# EAGLE library part 30PAD (library 29PAD-ta)
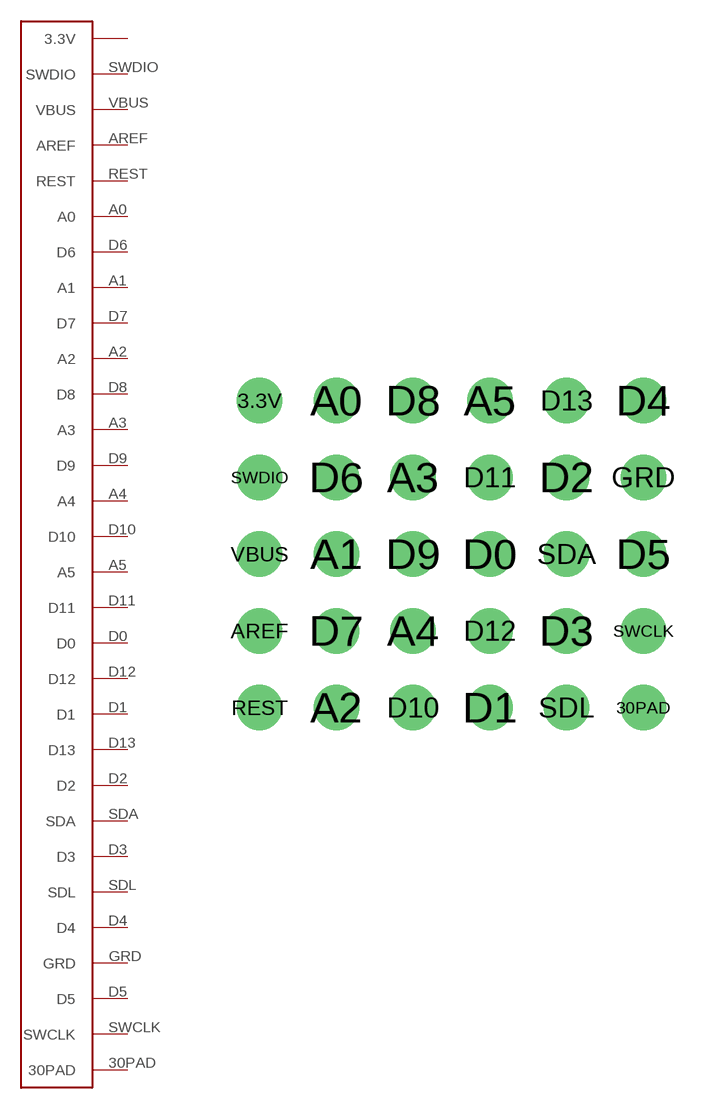
[diagram p1: symbol with the pads of 30PAD-SQUARE; footprint 30PAD-SQUARE]

Designator prefix -

## 30PAD  [30PAD-SQUARE]
3.3V  3.3V
30PAD  30PAD  nc
A0  A0
A1  A1
A2  A2
A3  A3
A4  A4
A5  A5
AREF  AREF
D0  D0
D1  D1
D2  D2
D3  D3
D4  D4
D5  D5
D6  D6
D7  D7
D8  D8
D9  D9
D10  D10
D11  D11
D12  D12
D13  D13
GRD  GRD
REST  REST
SDA  SDA
SDL  SDL
SWCLK  SWCLK
SWDIO  SWDIO
VBUS  VBUS

## Footprint 30PAD-SQUARE (pad centres in mm)
drill 1 pad 1.4: 3.3V -6.35,12.16; 30PAD 6.35,2; A0 -3.81,12.16; A1 -3.81,7.08; A2 -3.81,2; A3 -1.27,9.62; A4 -1.27,4.54; A5 1.27,12.16; AREF -6.35,4.54; D0 1.27,7.08; D1 1.27,2; D2 3.81,9.62; D3 3.81,4.54; D4 6.35,12.16; D5 6.35,7.08; D6 -3.81,9.62; D7 -3.81,4.54; D8 -1.27,12.16; D9 -1.27,7.08; D10 -1.27,2; D11 1.27,9.62; D12 1.27,4.54; D13 3.81,12.16; GRD 6.35,9.62; REST -6.35,2; SDA 3.81,7.08; SDL 3.81,2; SWCLK 6.35,4.54; SWDIO -6.35,9.62; VBUS -6.35,7.08